# Altium schematic symbol library QR.SchLib: 1 symbol
Pins are listed as number, name and electrical type; pins without a type are passive.

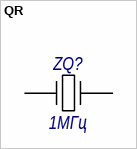
[diagram p0: symbol QR]

## QR
designator ZQ?  value 1МГц
pins: 1, 2